# EAGLE library part LT1764 (library 000_CustomPartsMaster)
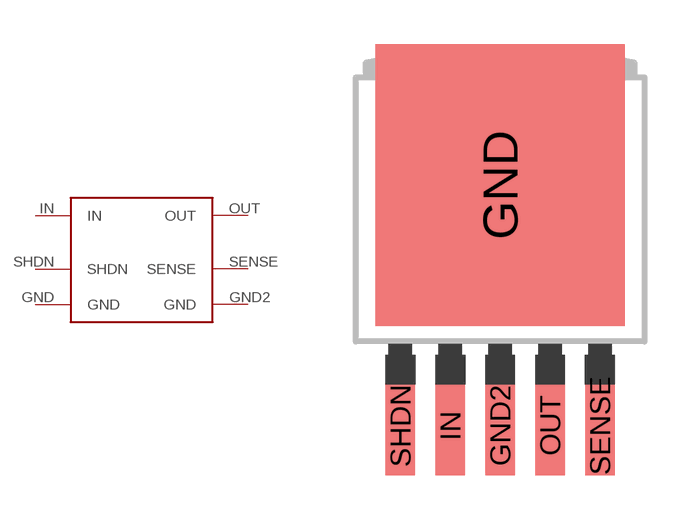
[diagram p31: symbol with the pads of Q5-DD; footprint Q5-DD]

Designator prefix -

## LT1764  [Q5-DD]
GND  GND
GND2  GND
IN  IN  in
OUT  OUT  out
SENSE  SENSE
SHDN  SHDN

## Footprint Q5-DD (pad centres in mm)
Q5-DD
smd 8.5 x 9.6: GND 0,0.325
smd 1 x 3.4: GND2 0,-7.875; IN -1.7,-7.875; OUT 1.7,-7.875; SENSE 3.4,-7.875; SHDN -3.4,-7.875